# Altium footprint library HSOP.PcbLib: 3 footprints
Each footprint in its own frame and in the unit in brackets; x right, y up, seen from the top. Pads: shape width x height; smd on the part's side, far side on the other; paste and mask are expansions set on the pad; w line width, h text height; cw(c..) or ccw(c..) is an arc to the next point about the centre after c.
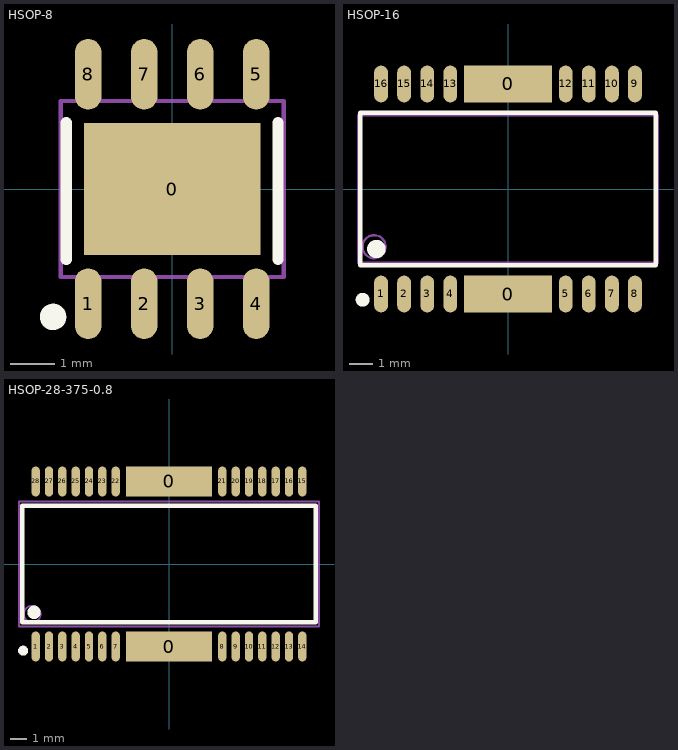
[diagram p0: the footprints below, top view; thin cyan lines are the x and y axes]

## HSOP-8 [mm]
pads (9):
  rect 4x3 smd: 0(0,0)
  oval 0.6x1.6 smd: 1(-1.905,-2.6) 2(-0.635,-2.6) 3(0.635,-2.6) 4(1.905,-2.6) 5(1.905,2.6) 6(0.635,2.6) 7(-0.635,2.6) 8(-1.905,2.6)
Top Overlay:
  circle w0.3: c-2.7,-2.9 r0.15
  lines w0.254: -2.4,-1.6 -2.4,1.5 ; 2.4,-1.6 2.4,1.5
Mechanical 13:
  lines w0.1: -2.525,-1.995 2.525,-1.995 2.525,1.995 -2.525,1.995 -2.525,-1.995

## HSOP-16 [mm]
pads (18):
  rect 3.8x1.6 smd: 0(0,-4.55) 0(0,4.55)
  oval 0.6x1.6 smd: 1(-5.5,-4.55) 2(-4.5,-4.55) 3(-3.5,-4.55) 4(-2.5,-4.55) 5(2.5,-4.55) 6(3.5,-4.55) 7(4.5,-4.55) 8(5.5,-4.55) 9(5.5,4.55) 10(4.5,4.55) 11(3.5,4.55) 12(2.5,4.55) 13(-2.5,4.55) 14(-3.5,4.55) 15(-4.5,4.55) 16(-5.5,4.55)
Top Overlay:
  circle w0.3: c-6.3,-4.8 r0.15
  circle w0.4: c-5.7,-2.6 r0.2
  lines w0.2: -6.4,-3.3 6.4,-3.3 6.4,3.3 -6.4,3.3 -6.4,-3.3
Mechanical 13:
  circle w0.1: c-5.8,-2.5 r0.5
  lines w0.1: -6.5,-3.2 6.5,-3.2 6.5,3.2 -6.5,3.2 -6.5,-3.2

## HSOP-28-375-0.8 [mm]
pads (30):
  rect 5.15x1.8 smd: 0(0,-4.95) 0(0,4.95)
  oval 0.5x1.8 smd: 1(-8,-4.95) 2(-7.2,-4.95) 3(-6.4,-4.95) 4(-5.6,-4.95) 5(-4.8,-4.95) 6(-4,-4.95) 7(-3.2,-4.95) 8(3.2,-4.95) 9(4,-4.95) 10(4.8,-4.95) 11(5.6,-4.95) 12(6.4,-4.95) 13(7.2,-4.95) 14(8,-4.95) 15(8,4.95) 16(7.2,4.95) 17(6.4,4.95) 18(5.6,4.95) 19(4.8,4.95) 20(4,4.95) 21(3.2,4.95) 22(-3.2,4.95) 23(-4,4.95) 24(-4.8,4.95) 25(-5.6,4.95) 26(-6.4,4.95) 27(-7.2,4.95) 28(-8,4.95)
Top Overlay:
  circle w0.4: c-8.1,-2.9 r0.2
  circle w0.3: c-8.75,-5.2 r0.15
  lines w0.254: -8.8,-3.5 8.8,-3.5 8.8,3.5 -8.8,3.5 -8.8,-3.5
Mechanical 13:
  circle w0.1: c-8.2,-3 r0.5
  lines w0.1: -9,-3.75 9,-3.75 9,3.75 -9,3.75 -9,-3.75